# Altium footprint library WURTH_74477020.PcbLib: 1 footprints
Each footprint in its own frame and in the unit in brackets; x right, y up, seen from the top. Pads: shape width x height; smd on the part's side, far side on the other; paste and mask are expansions set on the pad; w line width, h text height; cw(c..) or ccw(c..) is an arc to the next point about the centre after c.
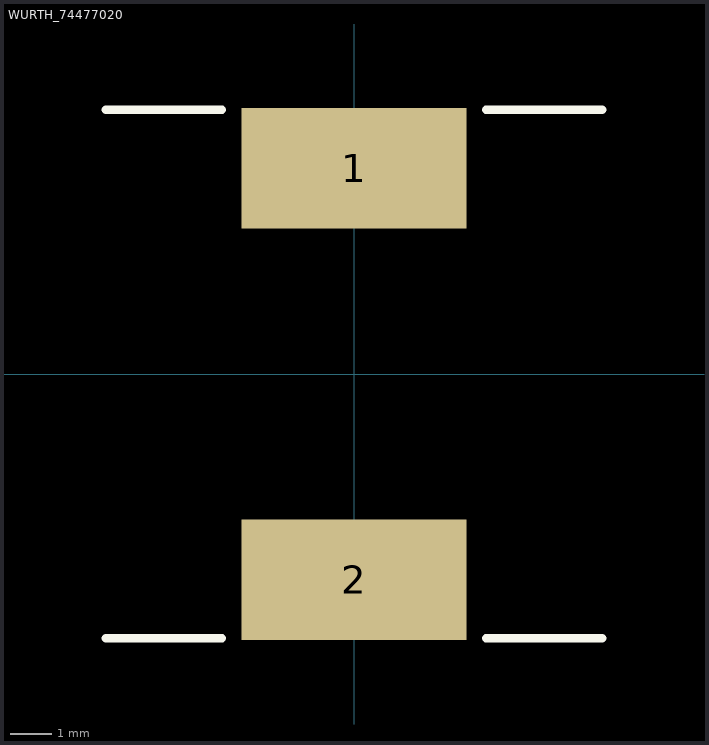
[diagram p0: the footprint, top view; thin cyan lines are the x and y axes]

## WURTH_74477020 [mm]
pads (2):
  rect 5.4x2.9 smd mask+0.1: 1(0,4.95) 2(0,-4.95)
Top Overlay:
  lines w0.2: -5.969,-6.35 -3.175,-6.35 ; -5.969,6.35 -3.175,6.35 ; 3.175,-6.35 5.969,-6.35 ; 3.175,6.35 5.969,6.35
3D body "74477001_Download_WE-PD_1280_STP_rev1.stp": height 7.26, standoff -0.2, extent -6,-6 6,6